# EAGLE library part LTC4412 (library custom_components)
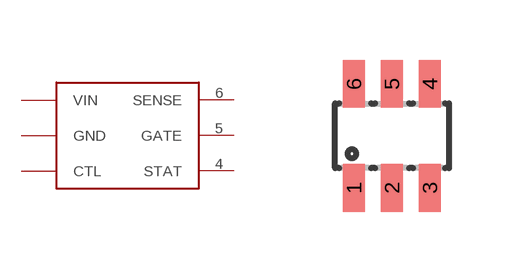
[diagram p0: symbol with the pads of SOT23-6L; footprint SOT23-6L]

Designator prefix -

## LTC4412  [SOT23-6L]
1  VIN  pwr
2  GND  pwr
3  CTL  in
4  STAT  out
5  GATE  out
6  SENSE  in

## Footprint SOT23-6L (pad centres in mm)
Small Outline Transistor
smd 0.55 x 1.2: 1 -0.95,-1.3; 2 0,-1.3; 3 0.95,-1.3; 4 0.95,1.3; 5 0,1.3; 6 -0.95,1.3